# Altium footprint library PASSIVE_THD.PCBLIB: 248 footprints (part 15 of 16)
Each footprint in its own frame and in the unit in brackets; x right, y up, seen from the top. Pads: shape width x height; smd on the part's side, far side on the other; paste and mask are expansions set on the pad; w line width, h text height; cw(c..) or ccw(c..) is an arc to the next point about the centre after c.
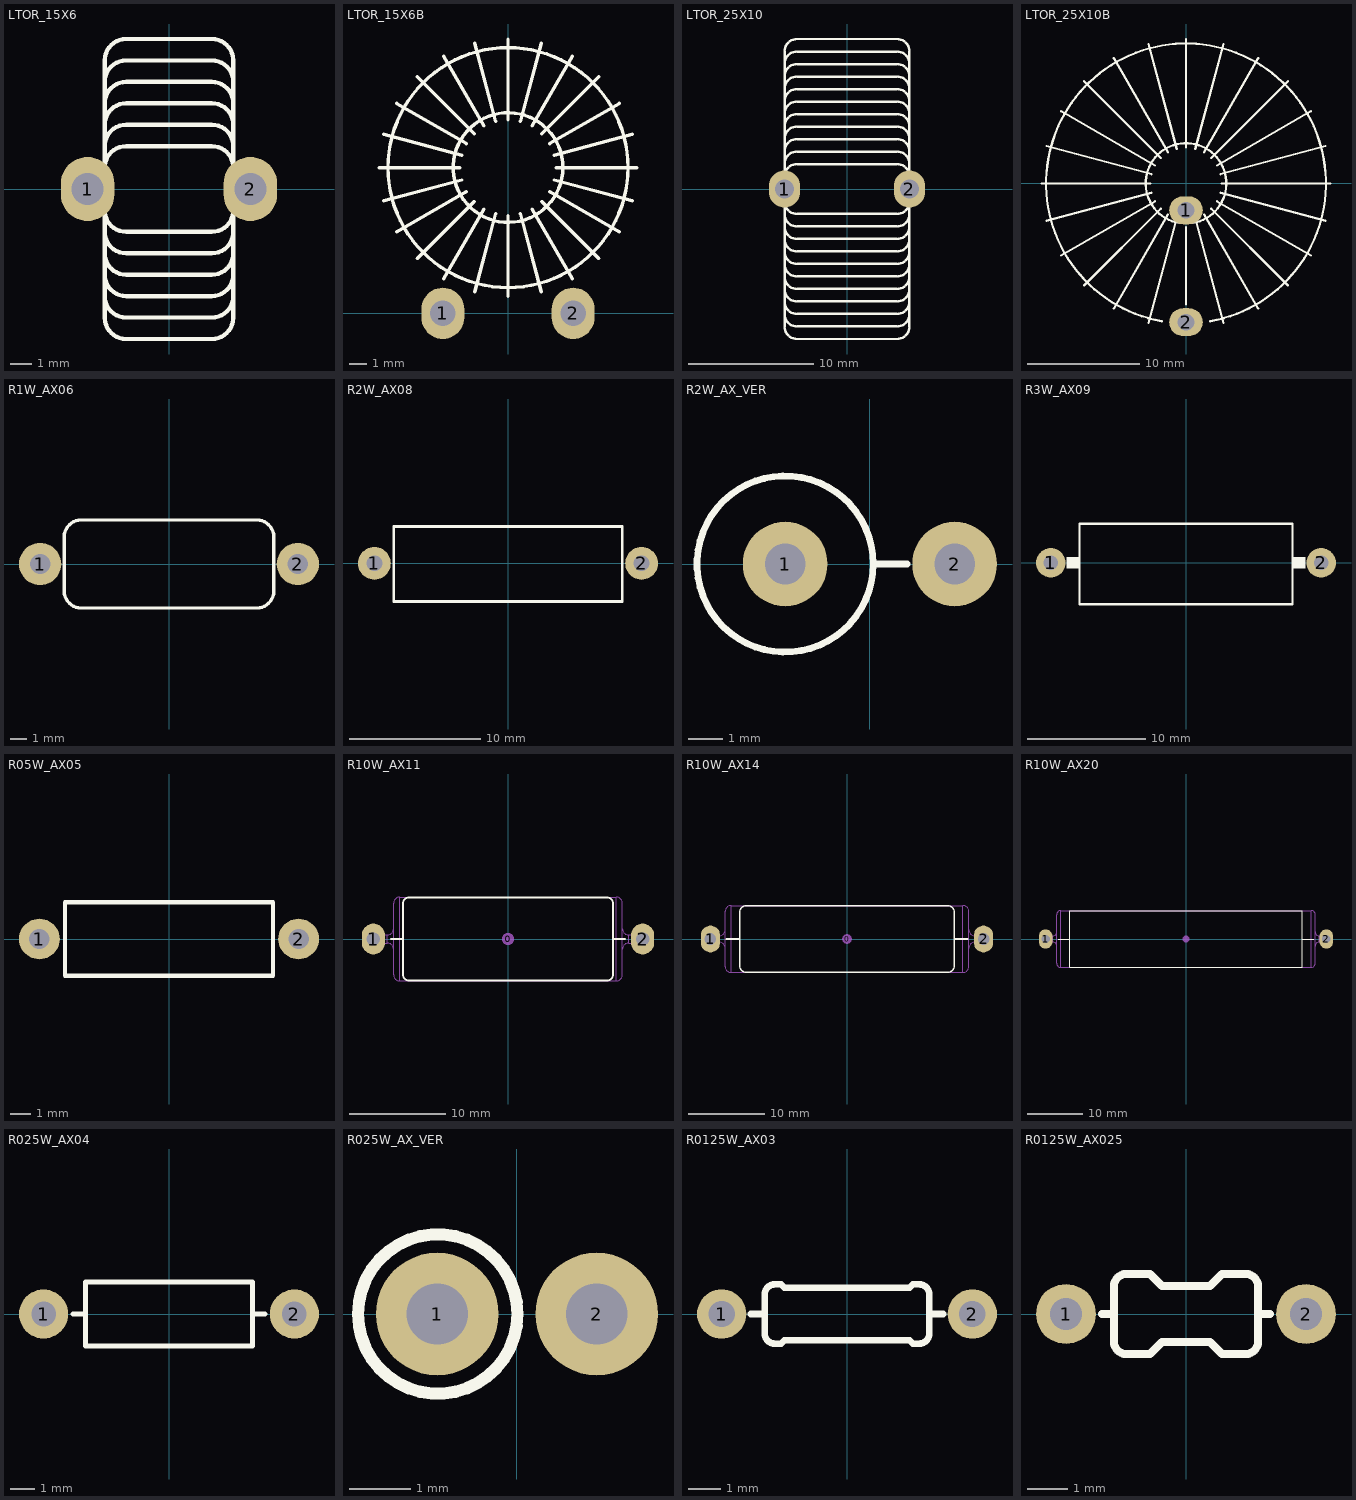
[diagram p14: the footprints below, top view; thin cyan lines are the x and y axes]

## LTOR_15X6 [mm] "INDUCTOR, TORIOD, 15.0X6.0mm"
pads (2):
  oval 2.5x3 hole 1.5: 1(-3.8,0) 2(3.8,0)
TopOverlay:
  lines w0.2: -3,-5 ccw(c-2,-5) -2,-6 2,-6 ccw(c2,-5) 3,-5 ; -3,-4 ccw(c-2,-4) -2,-5 2,-5 ccw(c2,-4) 3,-4 ; -3,-3 ccw(c-2,-3) -2,-4 2,-4 ccw(c2,-3) 3,-3 ; -3,-2 ccw(c-2,-2) -2,-3 2,-3 ccw(c2,-2) 3,-2 ; -3,-1.3 -3,-6 ccw(c-2,-6) -2,-7 2,-7 ccw(c2,-6) 3,-6 3,-1.3 ; -3,-1 ccw(c-2,-1) -2,-2 2,-2 ccw(c2,-1) 3,-1 ; -3,1 cw(c-2,1) -2,2 2,2 cw(c2,1) 3,1 ; -3,1.3 -3,6 cw(c-2,6) -2,7 2,7 cw(c2,6) 3,6 3,1.3 ; -3,2 cw(c-2,2) -2,3 2,3 cw(c2,2) 3,2 ; -3,3 cw(c-2,3) -2,4 2,4 cw(c2,3) 3,3 ; -3,4 cw(c-2,4) -2,5 2,5 cw(c2,4) 3,4 ; -3,5 cw(c-2,5) -2,6 2,6 cw(c2,5) 3,5
3D body "Inductor1_70_2.step": height 13.85, standoff -5.5, extent -3.85,-6.847 3.85,6.847

## LTOR_15X6B [mm] "INDUCTOR, TORIOD, 15.0X6.0mm BENDED"
pads (2):
  oval 2.5x3 hole 1.5: 1(-3.8,0) 2(3.8,0)
TopOverlay:
  circle w0.2: c0.004,8.5 r3.2
  circle w0.2: c0,8.5 r7
  lines w0.2: -7.5,8.5 -2.8,8.5 ; -7.244,6.559 -2.705,7.775 ; -7.244,10.441 -2.705,9.225 ; -6.495,4.75 -2.425,7.1 ; -6.495,12.25 -2.425,9.9 ; -5.303,3.197 -1.98,6.52 ; -5.303,13.803 -1.98,10.48 ; -3.75,2.005 -1.4,6.075 ; -3.75,14.995 -1.4,10.925 ; -1.941,1.256 -0.725,5.795 ; -1.941,15.744 -0.725,11.205 ; 0,1 0,5.7 ; 0,11.3 0,16 ; 0.725,5.795 1.941,1.256 ; 0.725,11.205 1.941,15.744 ; 1.4,6.075 3.75,2.005 ; 1.4,10.925 3.75,14.995 ; 1.98,6.52 5.303,3.197 ; 1.98,10.48 5.303,13.803 ; 2.425,7.1 6.495,4.75 ; 2.425,9.9 6.495,12.25 ; 2.705,7.775 7.244,6.559 ; 2.705,9.225 7.244,10.441 ; 2.8,8.5 7.5,8.5
3D body "Inductor1_70_2.step": height 7.65, standoff -0.05, extent -6.847,-3.9 6.847,15.446

## LTOR_25X10 [mm] "INDUCTOR, TORIOD, 25.0X10.0mm"
pads (2):
  oval 2.5x3 hole 1.5: 1(-5,0) 2(5,0)
TopOverlay:
  lines w0.2: -5,-10 ccw(c-4,-10) -4,-11 4,-11 ccw(c4,-10) 5,-10 ; -5,-9 ccw(c-4,-9) -4,-10 4,-10 ccw(c4,-9) 5,-9 ; -5,-8 ccw(c-4,-8) -4,-9 4,-9 ccw(c4,-8) 5,-8 ; -5,-7 ccw(c-4,-7) -4,-8 4,-8 ccw(c4,-7) 5,-7 ; -5,-6 ccw(c-4,-6) -4,-7 4,-7 ccw(c4,-6) 5,-6 ; -5,-5 ccw(c-4,-5) -4,-6 4,-6 ccw(c4,-5) 5,-5 ; -5,-4 ccw(c-4,-4) -4,-5 4,-5 ccw(c4,-4) 5,-4 ; -5,-3 ccw(c-4,-3) -4,-4 4,-4 ccw(c4,-3) 5,-3 ; -5,-2 ccw(c-4,-2) -4,-3 4,-3 ccw(c4,-2) 5,-2 ; -5,-1.3 -5,-11 ccw(c-4,-11) -4,-12 4,-12 ccw(c4,-11) 5,-11 5,-1.3 ; -5,-1 ccw(c-4,-1) -4,-2 4,-2 ccw(c4,-1) 5,-1 ; -5,1 cw(c-4,1) -4,2 4,2 cw(c4,1) 5,1 ; -5,1.3 -5,11 cw(c-4,11) -4,12 4,12 cw(c4,11) 5,11 5,1.3 ; -5,2 cw(c-4,2) -4,3 4,3 cw(c4,2) 5,2 ; -5,3 cw(c-4,3) -4,4 4,4 cw(c4,3) 5,3 ; -5,4 cw(c-4,4) -4,5 4,5 cw(c4,4) 5,4 ; -5,5 cw(c-4,5) -4,6 4,6 cw(c4,5) 5,5 ; -5,6 cw(c-4,6) -4,7 4,7 cw(c4,6) 5,6 ; -5,7 cw(c-4,7) -4,8 4,8 cw(c4,7) 5,7 ; -5,8 cw(c-4,8) -4,9 4,9 cw(c4,8) 5,8 ; -5,9 cw(c-4,9) -4,10 4,10 cw(c4,9) 5,9 ; -5,10 cw(c-4,10) -4,11 4,11 cw(c4,10) 5,10
3D body "User Library-5701-RC.STEP": height 23.03, standoff -12, extent -5.62,-11.21 5.7,11.21

## LTOR_25X10B [mm] "INDUCTOR, TORIOD, 25.0X10.0mm BENDED"
pads (2):
  oval 3x2.5 hole 1.5: 1(0,-2.4) 2(0,-12.4)
TopOverlay:
  lines w0.2: -12.9,0 -3.2,0 ; -12.46,-3.339 -3.091,-0.828 ; -12.46,3.339 -3.091,0.828 ; -11.172,-6.45 -2.771,-1.6 ; -11.172,6.45 -2.771,1.6 ; -9.122,-9.122 -2.263,-2.263 ; -9.122,9.122 -2.263,2.263 ; -6.45,-11.172 -1.6,-2.771 ; -6.45,11.172 -1.6,2.771 ; -3.339,-12.46 -0.942,-3.516 ; -3.339,12.46 -0.828,3.091 ; -2.171,-12.31 cw(c0,0) 2.171,-12.31 ; -0.625,-3.545 cw(c0,0) 0.625,-3.545 ; 0,-10.8 0,-3.9 ; 0,3.2 0,12.9 ; 0.828,3.091 3.339,12.46 ; 0.942,-3.516 3.339,-12.46 ; 1.6,-2.771 6.45,-11.172 ; 1.6,2.771 6.45,11.172 ; 2.263,-2.263 9.122,-9.122 ; 2.263,2.263 9.122,9.122 ; 2.771,-1.6 11.172,-6.45 ; 2.771,1.6 11.172,6.45 ; 3.091,-0.828 12.46,-3.339 ; 3.091,0.828 12.46,3.339 ; 3.2,0 12.9,0
3D body "User Library-5701-RC.STEP": height 11.26, standoff -0.06, extent -11.21,-23.8 11.21,11.235

## R1W_AX06 [mm] "RESISTOR 1 WATT, AXIAL0.6"
height 5
pads (2):
  round 2.5 hole 1.2: 1(-7.62,0) 2(7.62,0)
TopOverlay:
  lines w0.2: -6.2,-1.6 ccw(c-5.2,-1.6) -5.2,-2.6 5.2,-2.6 ccw(c5.2,-1.6) 6.2,-1.6 6.2,1.6 ccw(c5.2,1.6) 5.2,2.6 -5.2,2.6 ccw(c-5.2,1.6) -6.2,1.6 -6.2,-1.6
3D body "User Library-RES-1W.STEP": height 5, standoff -3, extent -7.97,-2.494 7.97,2.506

## R2W_AX08 [mm] "RESISTOR 2 WATT, AXIAL0.8"
height 5.5
pads (2):
  round 2.5 hole 1.2: 1(-10.16,0) 2(10.16,0)
TopOverlay:
  lines w0.2: -8.7,-2.9 8.7,-2.9 8.7,2.8 -8.7,2.8 -8.7,-2.9
3D body "User Library-RES-2W.STEP": height 5.5, standoff -3, extent -10.51,-2.8 10.51,2.7

## R2W_AX_VER [mm] "RESISTOR 2 WATT, AXIAL0.8"
height 5.5
pads (2):
  round 2.5 hole 1.2: 1(-2.5,0) 2(2.5,0)
TopOverlay:
  circle w0.2: c-2.5,0 r2.6
  lines w0.2: 0.191,0 1.1,0
3D body "User Library-RESAD500W80L1600D500_2W.STEP": height 20.3, standoff -3.1, extent -5,-2.5 2.9,2.5

## R3W_AX09 [mm] "RESISTOR 3 WATT, AXIAL0.9"
height 6.5
pads (2):
  round 2.5 hole 1.2: 1(-11.43,0) 2(11.43,0)
TopOverlay:
  rectangle: -10.1,-0.5 -9,0.5
  region: 10.1,0.5 9,0.5 9,-0.5 10.1,-0.5
  lines w0.2: -9,-3.5 9,-3.5 9,3.3 -9,3.3 -9,-3.5
3D body "User Library-RES-3W.STEP": height 6.5, standoff -3, extent -11.83,-3.3 11.83,3.2

## R05W_AX05 [mm] "RESISTOR 0.5 WATT, AXIAL0.5"
height 3.5
pads (2):
  round 2 hole 1: 1(-6.35,0) 2(6.35,0)
TopOverlay:
  lines w0.2: -5.1,-1.8 -5.1,1.8 5.1,1.8 5.1,-1.8 -5.1,-1.8
3D body "User Library-RES-1_5W.STEP": height 3.5, standoff -3, extent -6.62,-1.75 6.62,1.75

## R10W_AX11 [mm] "RESISTOR 10 WATT, AXIAL1.1"
height 8.712
pads (3):
  round 1.27 on Mech15: 0(0,0)
  oval 2.4x3.2 hole 1.4: 1(-14,0) 2(14,0)
TopOverlay:
  lines w0.2: -12.192,0 -10.922,0 ; 10.922,0 12.192,0 ; -10.922,-3.683 ccw(c-10.287,-3.683) -10.287,-4.318 10.287,-4.318 ccw(c10.287,-3.683) 10.922,-3.683 10.922,3.683 ccw(c10.287,3.683) 10.287,4.318 -10.287,4.318 ccw(c-10.287,3.683) -10.922,3.683 -10.922,-3.683
Mechanical13:
  lines w0.127: -13.106,-0.432 -13.106,0.432 ; -12.535,-0.429 -12.535,0.432 ; -11.9,-1.067 ccw(c-12.535,-1.067) -12.535,-0.432 -13.97,-0.432 cw(c-13.97,0) -13.97,0.432 -12.535,0.432 ; -11.9,1.067 cw(c-12.535,1.067) -12.535,0.432 ; 11.9,-1.067 cw(c12.535,-1.067) 12.535,-0.432 ; 11.9,1.067 ccw(c12.535,1.067) 12.535,0.432 13.97,0.432 cw(c13.97,0) 13.97,-0.432 12.535,-0.432 ; 12.535,0.429 12.535,-0.432 ; 13.106,-0.432 13.106,0.432 ; -11.265,-4.356 cw(c-11.265,-3.721) -11.9,-3.721 -11.9,3.721 cw(c-11.265,3.721) -11.265,4.356 ; -11.265,-4.356 11.265,-4.356 ; -11.265,-4.356 -11.265,4.356 ; -11.265,4.356 11.265,4.356 ; 11.265,-4.356 ccw(c11.265,-3.721) 11.9,-3.721 11.9,3.721 ccw(c11.265,3.721) 11.265,4.356 ; 11.265,-4.356 11.265,4.356
3D body "Power Res MRA-10.STEP": height 8.68, standoff -2.54, extent -14.402,-4.347 14.402,4.348

## R10W_AX14 [mm] "RESISTOR 10 WATT, AXIAL1.4"
height 8.712
pads (3):
  round 1.27 on Mech15: 0(0,0)
  oval 2.5x3.5 hole 1.5: 1(-17.8,0) 2(17.8,0)
TopOverlay:
  lines w0.2: -15.748,0 -13.97,0 ; 13.97,0 15.748,0 ; -13.97,-3.556 ccw(c-13.208,-3.556) -13.208,-4.318 13.208,-4.318 ccw(c13.208,-3.556) 13.97,-3.556 13.97,3.556 ccw(c13.208,3.556) 13.208,4.318 -13.208,4.318 ccw(c-13.208,3.556) -13.97,3.556 -13.97,-3.556
Mechanical13:
  lines w0.127: -16.916,-0.432 -16.916,0.432 ; -15.875,-1.194 ccw(c-16.637,-1.194) -16.637,-0.432 ; -15.875,1.194 cw(c-16.637,1.194) -16.637,0.432 ; 15.875,-1.194 cw(c16.637,-1.194) 16.637,-0.432 ; 15.875,1.194 ccw(c16.637,1.194) 16.637,0.432 ; 16.916,-0.432 16.916,0.432 ; -16.637,-0.432 -16.637,0.432 ; -16.637,-0.432 -17.78,-0.432 cw(c-17.78,0) -17.78,0.432 -16.637,0.432 ; -15.113,-4.356 cw(c-15.113,-3.594) -15.875,-3.594 -15.875,3.594 cw(c-15.113,3.594) -15.113,4.356 ; -15.113,-4.356 -15.113,4.356 ; -15.113,-4.356 15.113,-4.356 ; -15.113,4.356 15.113,4.356 ; 15.113,-4.356 ccw(c15.113,-3.594) 15.875,-3.594 15.875,3.594 ccw(c15.113,3.594) 15.113,4.356 ; 15.113,-4.356 15.113,4.356 ; 16.637,-0.432 16.637,0.432 ; 16.637,-0.432 17.78,-0.432 ccw(c17.78,0) 17.78,0.432 16.637,0.432
3D body "Power Res MRA-12.STEP": height 8.68, standoff -2.54, extent -18.212,-4.347 18.212,4.348

## R10W_AX20 [mm] "RESISTOR 10 WATT, AXIAL2.0"
height 10.312
pads (3):
  round 1.27 on Mech15: 0(0,0)
  oval 2.5x3.5 hole 1.5: 1(-25.4,0) 2(25.4,0)
TopOverlay:
  lines w0.2: -23.114,0 -21.082,0 ; 21.082,0 23.114,0 ; -21.082,-5.08 21.082,-5.08 21.082,5.08 -21.082,5.08 -21.082,-5.08
Mechanical13:
  lines w0.127: -24.333,-0.533 -24.333,0.533 ; -23.393,-1.295 ccw(c-24.155,-1.295) -24.155,-0.533 ; -23.393,1.295 cw(c-24.155,1.295) -24.155,0.533 ; 23.393,-1.295 cw(c24.155,-1.295) 24.155,-0.533 ; 23.393,1.295 ccw(c24.155,1.295) 24.155,0.533 ; 24.333,-0.533 24.333,0.533 ; -24.155,-0.533 -24.155,0.533 ; -24.155,-0.533 -25.4,-0.533 cw(c-25.4,0) -25.4,0.533 -24.155,0.533 ; -22.631,-5.156 cw(c-22.631,-4.394) -23.393,-4.394 -23.393,4.394 cw(c-22.631,4.394) -22.631,5.156 ; -22.631,-5.156 -22.631,5.156 ; -22.631,-5.156 22.631,-5.156 ; -22.631,5.156 22.631,5.156 ; 22.631,-5.156 ccw(c22.631,-4.394) 23.393,-4.394 23.393,4.394 ccw(c22.631,4.394) 22.631,5.156 ; 22.631,-5.156 22.631,5.156 ; 24.155,-0.533 24.155,0.533 ; 24.155,-0.533 25.4,-0.533 ccw(c25.4,0) 25.4,0.533 24.155,0.533
3D body "Power Res RS010.STEP": height 10.27, standoff -2.54, extent -25.933,-5.146 25.933,5.146

## R025W_AX04 [mm] "RESISTOR 1/4 WATT, AXIAL0.4"
pads (2):
  round 2 hole 1: 1(-5.1,0) 2(5.1,0)
TopOverlay:
  lines w0.2: -3.9,0 -3.4,0 ; 3.375,-1.3 -3.4,-1.3 -3.4,1.3 3.375,1.3 ; 3.4,-1.3 3.4,1.3 ; 3.4,0 3.9,0
3D body "RESTH_Axial-0.4.STEP": height 2.6, standoff -2.54, extent -5.38,-1.277 5.38,1.277

## R025W_AX_VER [mm] "RESISTOR 1/4 WATT, AXIAL0.4"
pads (2):
  round 2 hole 1: 1(-1.3,0) 2(1.3,0)
TopOverlay:
  circle w0.2: c-1.29,0 r1.3
3D body "User Library-RESAD250W60L650D230_0_25W.STEP": height 9.83, standoff -2.47, extent -2.436,-1.15 1.51,1.15

## R0125W_AX03 [mm] "RESISTOR 1/8 WATT, AXIAL0.3 INCH SPACING"
pads (2):
  round 1.5 hole 0.8: 1(-3.81,0) 2(3.81,0)
TopOverlay:
  lines w0.2: -2.921,0 -2.5,0 ; 2.5,0 2.921,0 ; -2.5,-0.6 ccw(c-2.2,-0.6) -2.2,-0.9 -2,-0.9 -1.9,-0.8 1.9,-0.8 2,-0.9 2.2,-0.9 ccw(c2.2,-0.6) 2.5,-0.6 2.5,0.6 ccw(c2.2,0.6) 2.2,0.9 2,0.9 1.9,0.8 -1.9,0.8 -2,0.9 -2.2,0.9 ccw(c-2.2,0.6) -2.5,0.6 -2.5,-0.6
3D body "1M.STEP": height 1.85, standoff -3, extent -4.16,-0.85 4.16,0.85

## R0125W_AX025 [mm] "RESISTOR 1/8 WATT, AXIAL0.25"
pads (2):
  round 1.5 hole 0.8: 1(-3,0) 2(3,0)
TopOverlay:
  lines w0.2: -2.1,0 -1.8,0 ; 1.8,0 2.1,0 ; -1.8,-0.7 ccw(c-1.5,-0.7) -1.5,-1 -0.9,-1 -0.6,-0.7 0.6,-0.7 0.9,-1 1.5,-1 ccw(c1.5,-0.7) 1.8,-0.7 1.8,0.7 ccw(c1.5,0.7) 1.5,1 0.9,1 0.6,0.7 -0.6,0.7 -0.9,1 -1.5,1 ccw(c-1.5,0.7) -1.8,0.7 -1.8,-0.7
3D body "User Library-Res_1-8w_1_0.step": height 1.9, standoff -2, extent -3.2,-0.9 3.2,0.9